# Altium footprint library SnapEDApcb.PcbLib: 1 footprints
Each footprint in its own frame and in the unit in brackets; x right, y up, seen from the top. Pads: shape width x height; smd on the part's side, far side on the other; paste and mask are expansions set on the pad; w line width, h text height; cw(c..) or ccw(c..) is an arc to the next point about the centre after c.
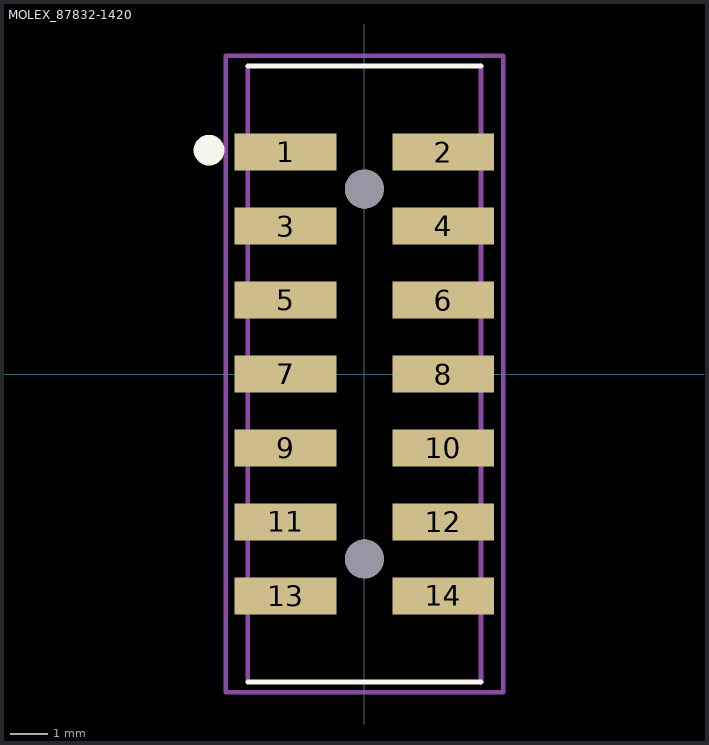
[diagram p0: the footprint, top view; thin cyan lines are the x and y axes]

## MOLEX_87832-1420 [mm]
pads (16):
  rect 2.75x1 smd: 1(-2.13,6) 2(2.13,6) 3(-2.13,4) 4(2.13,4) 5(-2.13,2) 6(2.13,2) 7(-2.13,0) 8(2.13,0) 9(-2.13,-2) 10(2.13,-2) 11(-2.13,-4) 12(2.13,-4) 13(-2.13,-6) 14(2.13,-6)
  round 1.05 hole 1.05 unplated: ""(0,-5) ""(0,5)
Top Overlay:
  circle w0.61: c-4.2,6.05 r0.11
  lines w0.127: -3.15,-8.325 3.15,-8.325 ; -3.15,8.325 3.15,8.325
Mechanical 13:
  lines w0.127: -3.15,-8.325 -3.15,8.325 ; 3.15,-8.325 3.15,8.325
Mechanical 15:
  lines w0.127: -3.75,-8.6 -3.75,8.6 3.75,8.6 3.75,-8.6 -3.75,-8.6
3D body "878321420.stp": height 7.65, standoff -0.95, extent -3.15,-8.325 3.15,8.325